# EAGLE library part MARDUINO_ISP (library Arduino-shield-scaffolds)
Arduino Modular Shield Scaffold Arduino ISP/SPI connector
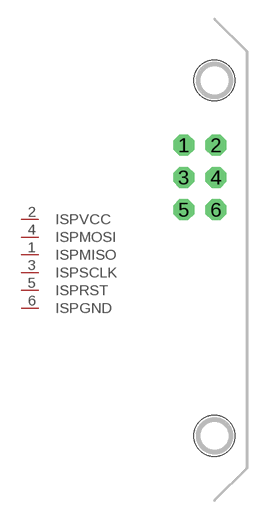
[diagram p6: symbol with the pads of MARDUINO_ISP; footprint MARDUINO_ISP]

Designator prefix -

## MARDUINO_ISP  [MARDUINO_ISP]
1  ISPMISO  in
2  ISPVCC  pwr
3  ISPSCLK  out
4  ISPMOSI  out
5  ISPRST  in
6  ISPGND  pwr

## Footprint MARDUINO_ISP (pad centres in mm)
Arduino Modular Shield Scaffold six-pin ISP/SPI connector
drill 1.1 octagon: 1 63.627,30.48; 2 66.167,30.48; 3 63.627,27.94; 4 66.167,27.94; 5 63.627,25.4; 6 66.167,25.4
hole 3.2 at 66.04,35.56
hole 3.2 at 66.04,7.62